# Altium footprint library 24pin_holes.PcbLib: 2 footprints
Each footprint in its own frame and in the unit in brackets; x right, y up, seen from the top. Pads: shape width x height; smd on the part's side, far side on the other; paste and mask are expansions set on the pad; w line width, h text height; cw(c..) or ccw(c..) is an arc to the next point about the centre after c.
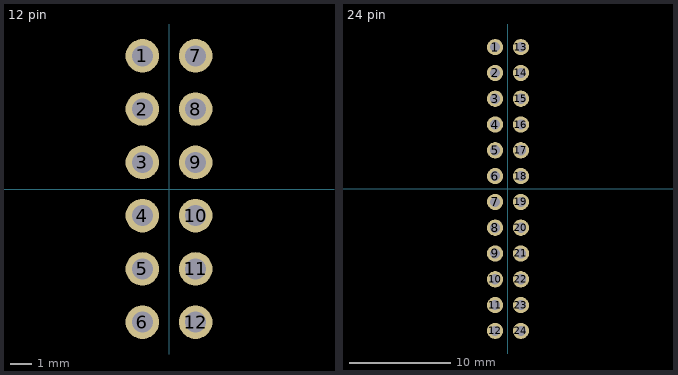
[diagram p0: the footprints below, top view; thin cyan lines are the x and y axes]

## 12 pin [mm]
pads (12):
  round 1.6 hole 1: 1(-1.27,6.35) 2(-1.27,3.81) 3(-1.27,1.27) 4(-1.27,-1.27) 5(-1.27,-3.81) 6(-1.27,-6.35) 7(1.27,6.35) 8(1.27,3.81) 9(1.27,1.27) 10(1.27,-1.27) 11(1.27,-3.81) 12(1.27,-6.35)
3D body "12-Pin Shrouded Header (IDC) Straight.stp": height 9.27, standoff -3.9, extent -4.826,-9.525 4.545,9.525

## 24 pin [mm] "PicoBlade connector RA 12 way"
pads (24):
  round 1.6 hole 1: 1(-1.27,13.97) 2(-1.27,11.43) 3(-1.27,8.89) 4(-1.27,6.35) 5(-1.27,3.81) 6(-1.27,1.27) 7(-1.27,-1.27) 8(-1.27,-3.81) 9(-1.27,-6.35) 10(-1.27,-8.89) 11(-1.27,-11.43) 12(-1.27,-13.97) 13(1.27,13.97) 14(1.27,11.43) 15(1.27,8.89) 16(1.27,6.35) 17(1.27,3.81) 18(1.27,1.27) 19(1.27,-1.27) 20(1.27,-3.81) 21(1.27,-6.35) 22(1.27,-8.89) 23(1.27,-11.43) 24(1.27,-13.97)